# EAGLE library part C8051F396 (library tmxk)
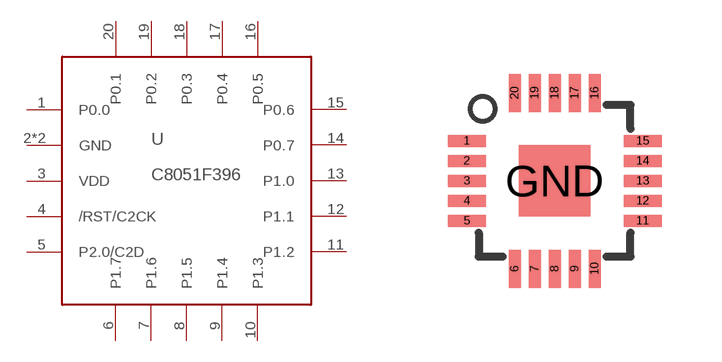
[diagram p21: symbol with the pads of QFN20; footprint QFN20]

Designator prefix U

## C8051F396QFN20  [QFN20]
1  P0.0
2  GND
3  VDD
4  /RST/C2CK
5  P2.0/C2D
6  P1.7
7  P1.6
8  P1.5
9  P1.4
10  P1.3
11  P1.2
12  P1.1
13  P1.0
14  P0.7
15  P0.6
16  P0.5
17  P0.4
18  P0.3
19  P0.2
20  P0.1
GND  GND

## Footprint QFN20 (pad centres in mm)
ES Package, 20-Contact QFN with Exposed Thermal Pad Data sheet <http://www.allegromicro.com/en/Products/Part_Numbers/3906/3906.pdf>
smd 0.95 x 0.3: 1 -2.2,1; 2 -2.2,0.5; 3 -2.2,0; 4 -2.2,-0.5; 5 -2.2,-1; 11 2.2,-1; 12 2.2,-0.5; 13 2.2,0; 14 2.2,0.5; 15 2.2,1
smd 0.3 x 0.95: 6 -1,-2.2; 7 -0.5,-2.2; 8 0,-2.2; 9 0.5,-2.2; 10 1,-2.2; 16 1,2.2; 17 0.5,2.2; 18 0,2.2; 19 -0.5,2.2; 20 -1,2.2
smd 1.778 x 1.778: GND 0,0